# Altium integrated library ScrewHeader.IntLib: 7 symbols
Pins are listed as number, name and electrical type; pins without a type are passive.

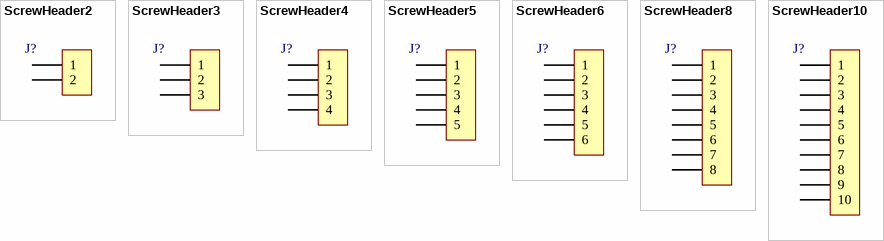
[diagram p0: symbols ScrewHeader2 to ScrewHeader10]

## ScrewHeader2
designator J?  (value not drawn)
PCB terminal block with screw; value: *
footprint ScrewHeader2 P5.0 (PCB terminal block with screw)
footprint ScrewHeader2 P2.54 (PCB terminal block with screw)
footprint PC MKDS 5 P7.62 2P (PHOENIX CONTACT MKDS 5/2-7.62 1868076)
footprint Phoenix MKDS5/2 P7.62 (Phoenix Contact MKDS 5/ 2-7,62)
footprint Weidmueller SLA 02/90 (PCB plug-in connector, male header, Pitch 5.08 mm, 2 poles)
footprint Phoenix MKDSN1.5 2P P5.08 (PCB terminal block with screw)
pins: 1, 2

## ScrewHeader3
designator J?  (value not drawn)
PCB terminal block with screw
footprint ScrewHeader3 P5.0 (PCB terminal block with screw)
footprint ScrewHeader3 P2.54 (PCB terminal block with screw)
footprint Phoenix MKDS5/3 P7.62 (Phoenix Contact MKDS 5/ 3-7,62)
footprint Weidmueller SLA 03/90 (PCB plug-in connector, male header, Pitch 5.08 mm, 3 poles)
footprint Phoenix MKDSN1.5 3P P5.08 (PCB terminal block with screw)
pins: 1, 2, 3

## ScrewHeader4
designator J?  (value not drawn)
PCB terminal block with screw
footprint ScrewHeader4 P5.0 (PCB terminal block with screw)
footprint ScrewHeader4 P2.54 (PCB terminal block with screw)
footprint Weidmueller SLA 04/90 (PCB plug-in connector, male header, Pitch 5.08 mm, 4 poles)
pins: 1, 2, 3, 4

## ScrewHeader5
designator J?  (value not drawn)
PCB terminal block with screw
footprint ScrewHeader5 P5.0 (PCB terminal block with screw)
footprint ScrewHeader5 P2.54 (PCB terminal block with screw)
footprint Weidmueller SLA 05/90 (PCB plug-in connector, male header, Pitch 5.08 mm, 5 poles)
pins: 1, 2, 3, 4, 5

## ScrewHeader6
designator J?  (value not drawn)
PCB terminal block with screw
footprint ScrewHeader6 P5.0 (PCB terminal block with screw)
footprint Weidmueller SLA 06/90 (PCB plug-in connector, male header, Pitch 5.08 mm, 6 poles)
pins: 1, 2, 3, 4, 5, 6

## ScrewHeader8
designator J?  (value not drawn)
PCB terminal block with screw
footprint ScrewHeader8 P5.0 (PCB terminal block with screw)
footprint ScrewHeader8 P2.54 (PCB terminal block with screw)
footprint Weidmueller SLA 08/90 (PCB plug-in connector, male header, Pitch 5.08 mm, 8 poles)
pins: 1, 2, 3, 4, 5, 6, 7, 8

## ScrewHeader10
designator J?  (value not drawn)
PCB terminal block with screw
footprint ScrewHeader10 P5.0 (PCB terminal block with screw)
footprint ScrewHeader10 P2.54 (PCB terminal block with screw)
pins: 1, 2, 3, 4, 5, 6, 7, 8, 9, 10